# Altium footprint library CON2.54x3.PcbLib: 1 footprints
Each footprint in its own frame and in the unit in brackets; x right, y up, seen from the top. Pads: shape width x height; smd on the part's side, far side on the other; paste and mask are expansions set on the pad; w line width, h text height; cw(c..) or ccw(c..) is an arc to the next point about the centre after c.
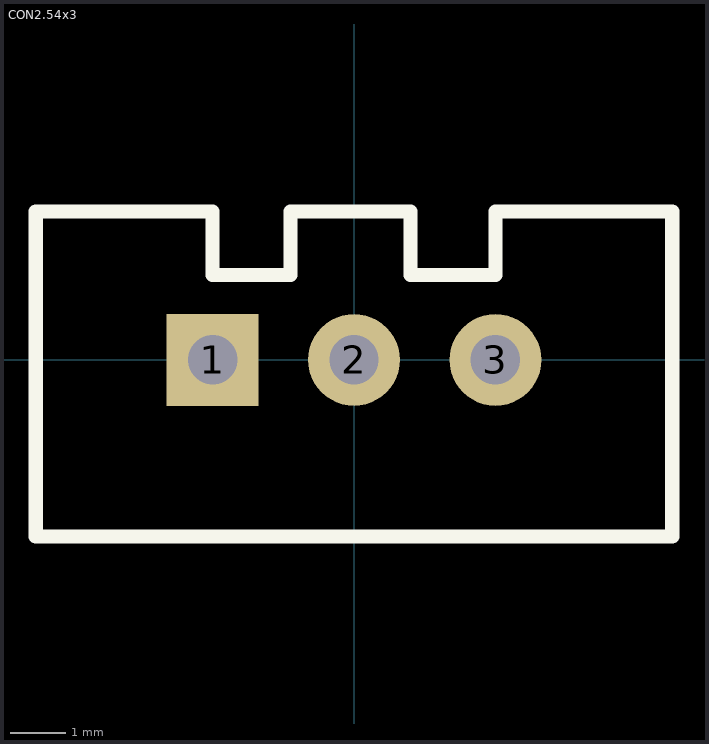
[diagram p0: the footprint, top view; thin cyan lines are the x and y axes]

## CON2.54x3 [mil] "连接器"
pads (3):
  rect 65x65 hole 35: 1(-100,0)
  round 65 hole 35: 2(0,0) 3(100,0)
Top Overlay:
  lines w10: -225,-125 -225,105 -100,105 -100,60 -45,60 -45,105 40,105 40,60 100,60 100,105 225,105 225,-125 -225,-125